# Altium footprint library ZYF_Connector.PcbLib: 39 footprints (part 1 of 3)
Each footprint in its own frame and in the unit in brackets; x right, y up, seen from the top. Pads: shape width x height; smd on the part's side, far side on the other; paste and mask are expansions set on the pad; w line width, h text height; cw(c..) or ccw(c..) is an arc to the next point about the centre after c.
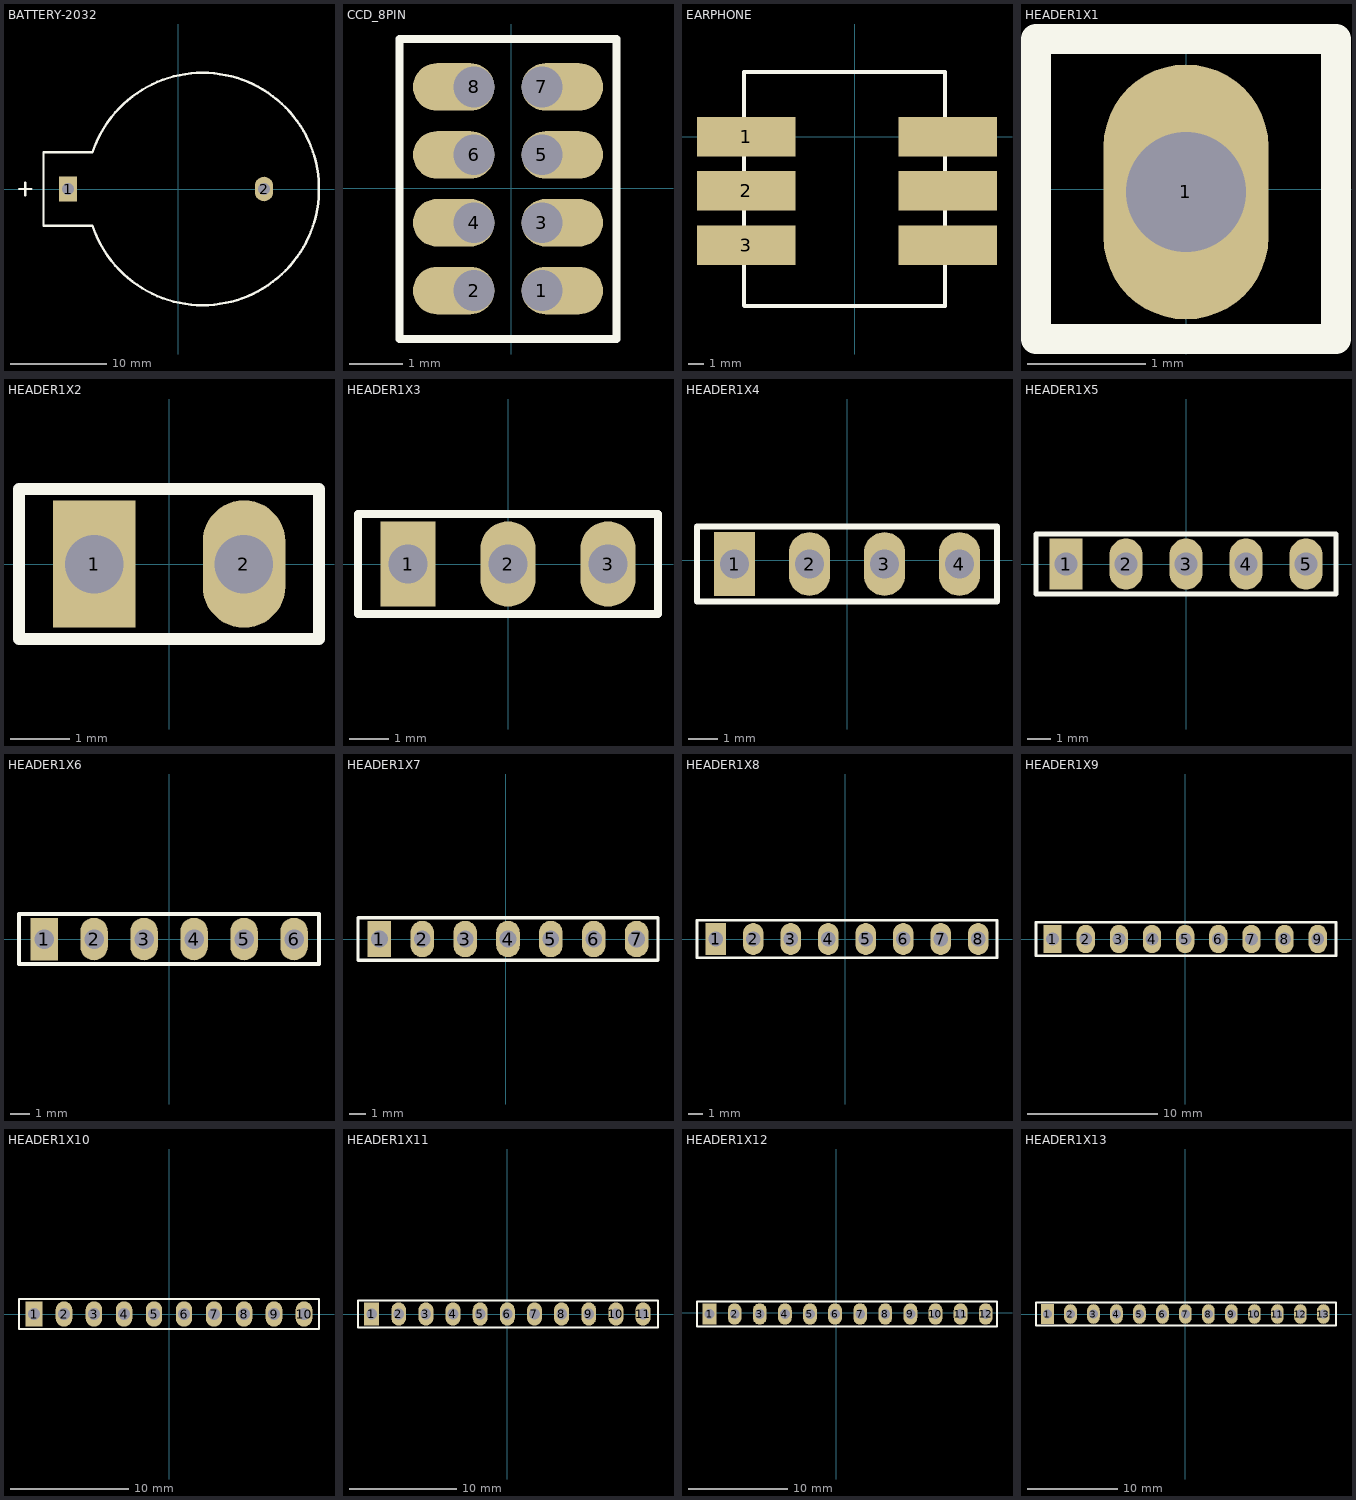
[diagram p0: the footprints below, top view; thin cyan lines are the x and y axes]

## BATTERY-2032 [mil]
pads (2):
  rect 75x100 hole 50: 1(-450,0)
  oval 75x100 hole 50: 2(350,0)
Top Overlay:
  lines w10: -650,0 -600,0 ; -625,-25 -625,25 ; -550,-150 -350,-150 ccw(c100,0) -350,150 -550,150 -550,-150
3D body: height 334.65, standoff -157.48, extent -483.5,-435.07 481.07,431.08

## CCD_8PIN [mil]
pads (8):
  oval 60x35 hole 30 copper offset 15,0: 1(22.45,-75.4) 3(22.45,-25.4) 5(22.45,24.6) 7(22.45,74.6)
  oval 60x35 hole 30 copper offset -15,0: 2(-27.55,-75.4) 4(-27.55,-25.4) 6(-27.55,24.6) 8(-27.55,74.6)
Top Overlay:
  lines w6.06: -82.55,-111.05 -82.55,109.95 -53.14,109.95 77.45,109.95 77.45,49.61 77.45,-48.71 77.45,-111.05 60.86,-111.05 -82.55,-111.05

## EARPHONE [mm]
pads (6):
  rect 6.35x2.54 all layers, no hole: 1(-7,0) 2(-7,-3.5) 3(-7,-7) ""(6,-7) ""(6,-3.5) ""(6,0)
Top Overlay:
  lines w0.254: -7.137,-10.897 -7.137,4.166 5.817,4.166 5.817,-10.922 -7.112,-10.922 -7.137,-10.897
3D body: height 15.17, standoff -4.77, extent -9.557,-21.523 8.643,10.271

## HEADER1X1 [mil]
pads (1):
  oval 55x85 hole 40: 1(0,-0.99)
Top Overlay:
  lines w10: -50,-50 50,-50 50,50 -50,50 -50,-50
3D body: height 336.22, standoff -118.11, extent -50,-49.01 50,49.02

## HEADER1X2 [mil]
pads (2):
  rect 55x85 hole 39: 1(-50,0)
  oval 55x85 hole 39: 2(50,0)
Top Overlay:
  lines w7.87: -100,-50 -100,50 100,50 100,-50 -100,-50
3D body: height 351.79, standoff -80.49, extent -100,-50 100,50

## HEADER1X3 [mil]
pads (3):
  rect 55x85 hole 39: 1(-100,0)
  oval 55x85 hole 39: 2(0,0) 3(100,0)
Top Overlay:
  lines w7.87: -150,-50 -150,50 150,50 150,-50 -150,-50
3D body: height 322.83, standoff -118.11, extent -145,-48.36 155,50

## HEADER1X4 [mil]
pads (4):
  rect 55x85 hole 39: 1(-150,-5)
  oval 55x85 hole 39: 2(-50,-5) 3(50,-5) 4(150,-5)
Top Overlay:
  lines w7.87: -200,-55 200,-55 200,45 -200,45 -200,-55
3D body: height 322.83, standoff -118.11, extent -200,-53.36 200,45

## HEADER1X5 [mil]
pads (5):
  rect 55x85 hole 39: 1(-200,0)
  oval 55x85 hole 39: 2(-100,0) 3(0,0) 4(100,0) 5(200,0)
Top Overlay:
  lines w7.87: -250,-50 250,-50 250,50 -250,50 -250,-50
3D body: height 322.83, standoff -118.11, extent -246.05,-49.04 253.94,49.32

## HEADER1X6 [mil]
pads (6):
  rect 55x85 hole 39: 1(-250,0)
  oval 55x85 hole 39: 2(-150,0) 3(-50,0) 4(50,0) 5(150,0) 6(250,0)
Top Overlay:
  lines w7.87: -300,-50 -300,50 300,50 300,-50 -300,-50
3D body: height 322.83, standoff -118.11, extent -295,-50 305,48.36

## HEADER1X7 [mil]
pads (7):
  rect 55x85 hole 39: 1(-295,0)
  oval 55x85 hole 39: 2(-195,0) 3(-95,0) 4(5,0) 5(105,0) 6(205,0) 7(305,0)
Top Overlay:
  lines w7.87: -345,-50 355,-50 355,50 -345,50 -345,-50
3D body: height 322.83, standoff -118.11, extent -45,-53.36 355,45
3D body: height 322.83, standoff -118.11, extent -345,-48.36 -45,50

## HEADER1X8 [mil]
pads (8):
  rect 55x85 hole 39: 1(-345,0)
  oval 55x85 hole 39: 2(-245,0) 3(-145,0) 4(-45,0) 5(55,0) 6(155,0) 7(255,0) 8(355,0)
Top Overlay:
  lines w7.87: -395,-50 -395,50 405,50 405,-50 -395,-50
3D body: height 322.83, standoff -118.11, extent -390,-53.36 10,45
3D body: height 322.83, standoff -118.11, extent 10,-53.36 410,45

## HEADER1X9 [mil]
pads (9):
  rect 55x85 hole 39: 1(-400,0)
  oval 55x85 hole 39: 2(-300,0) 3(-200,0) 4(-100,0) 5(0,0) 6(100,0) 7(200,0) 8(300,0) 9(400,0)
Top Overlay:
  lines w7.87: -450,-50 -450,50 -375,50 455,50 455,-50 -450,-50
3D body: height 322.83, standoff -118.11, extent -45,-48.36 455,50
3D body: height 322.83, standoff -118.11, extent -445,-48.36 -45,50

## HEADER1X10 [mil]
pads (10):
  rect 55x85 hole 39: 1(-450,0)
  oval 55x85 hole 39: 2(-350,0) 3(-250,0) 4(-150,0) 5(-50,0) 6(50,0) 7(150,0) 8(250,0) 9(350,0) 10(450,0)
Top Overlay:
  lines w7.87: -500,-50 -500,50 -425,50 500,50 500,-50 -500,-50
3D body: height 322.83, standoff -118.11, extent -1.05,-49.04 498.94,49.32
3D body: height 322.83, standoff -118.11, extent -501.05,-49.04 -1.06,49.32

## HEADER1X11 [mil]
pads (11):
  rect 55x85 hole 39: 1(-500,0)
  oval 55x85 hole 39: 2(-400,0) 3(-300,0) 4(-200,0) 5(-100,0) 6(0,0) 7(100,0) 8(200,0) 9(300,0) 10(400,0) 11(500,0)
Top Overlay:
  lines w7.87: -550,-50 -550,50 -475,50 555,50 555,-50 -550,-50
3D body: height 322.83, standoff -118.11, extent -545,-45 -45,53.36
3D body: height 322.83, standoff -118.11, extent -45,-45 555,53.36

## HEADER1X12 [mil]
pads (12):
  rect 55x85 hole 39: 1(-505,-5)
  oval 55x85 hole 39: 2(-405,-5) 3(-305,-5) 4(-205,-5) 5(-105,-5) 6(-5,-5) 7(95,-5) 8(195,-5) 9(295,-5) 10(395,-5) 11(495,-5) 12(595,-5)
Top Overlay:
  lines w7.87: -555,-55 -555,45 -480,45 640,45 640,-55 -555,-55
3D body: height 322.83, standoff -118.11, extent 50,-55 650,43.36
3D body: height 322.83, standoff -118.11, extent -550,-55 50,43.36

## HEADER1X13 [mil]
pads (13):
  rect 55x85 hole 39: 1(-600,0)
  oval 55x85 hole 39: 2(-500,0) 3(-400,0) 4(-300,0) 5(-200,0) 6(-100,0) 7(0,0) 8(100,0) 9(200,0) 10(300,0) 11(400,0) 12(500,0) 13(600,0)
Top Overlay:
  lines w7.87: -650,-50 -650,50 -575,50 655,50 655,-50 -650,-50
3D body: height 322.83, standoff -118.11, extent -150,-50 350,48.36
3D body: height 322.83, standoff -118.11, extent -650,-49.18 -150,49.18
3D body: height 322.83, standoff -118.11, extent 350,-48.36 650,50